# Altium schematic symbol library DC_DC.SchLib: 1 symbol
Pins are listed as number, name and electrical type; pins without a type are passive.

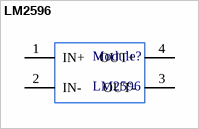
[diagram p0: symbol LM2596]

## LM2596
designator Module?
footprint DCDC
pins: 1 IN+, 2 IN-, 3 OUT-, 4 OUT+